# Altium footprint library PcbLib1.PcbLib: 49 footprints (part 3 of 4)
Each footprint in its own frame and in the unit in brackets; x right, y up, seen from the top. Pads: shape width x height; smd on the part's side, far side on the other; paste and mask are expansions set on the pad; w line width, h text height; cw(c..) or ccw(c..) is an arc to the next point about the centre after c.
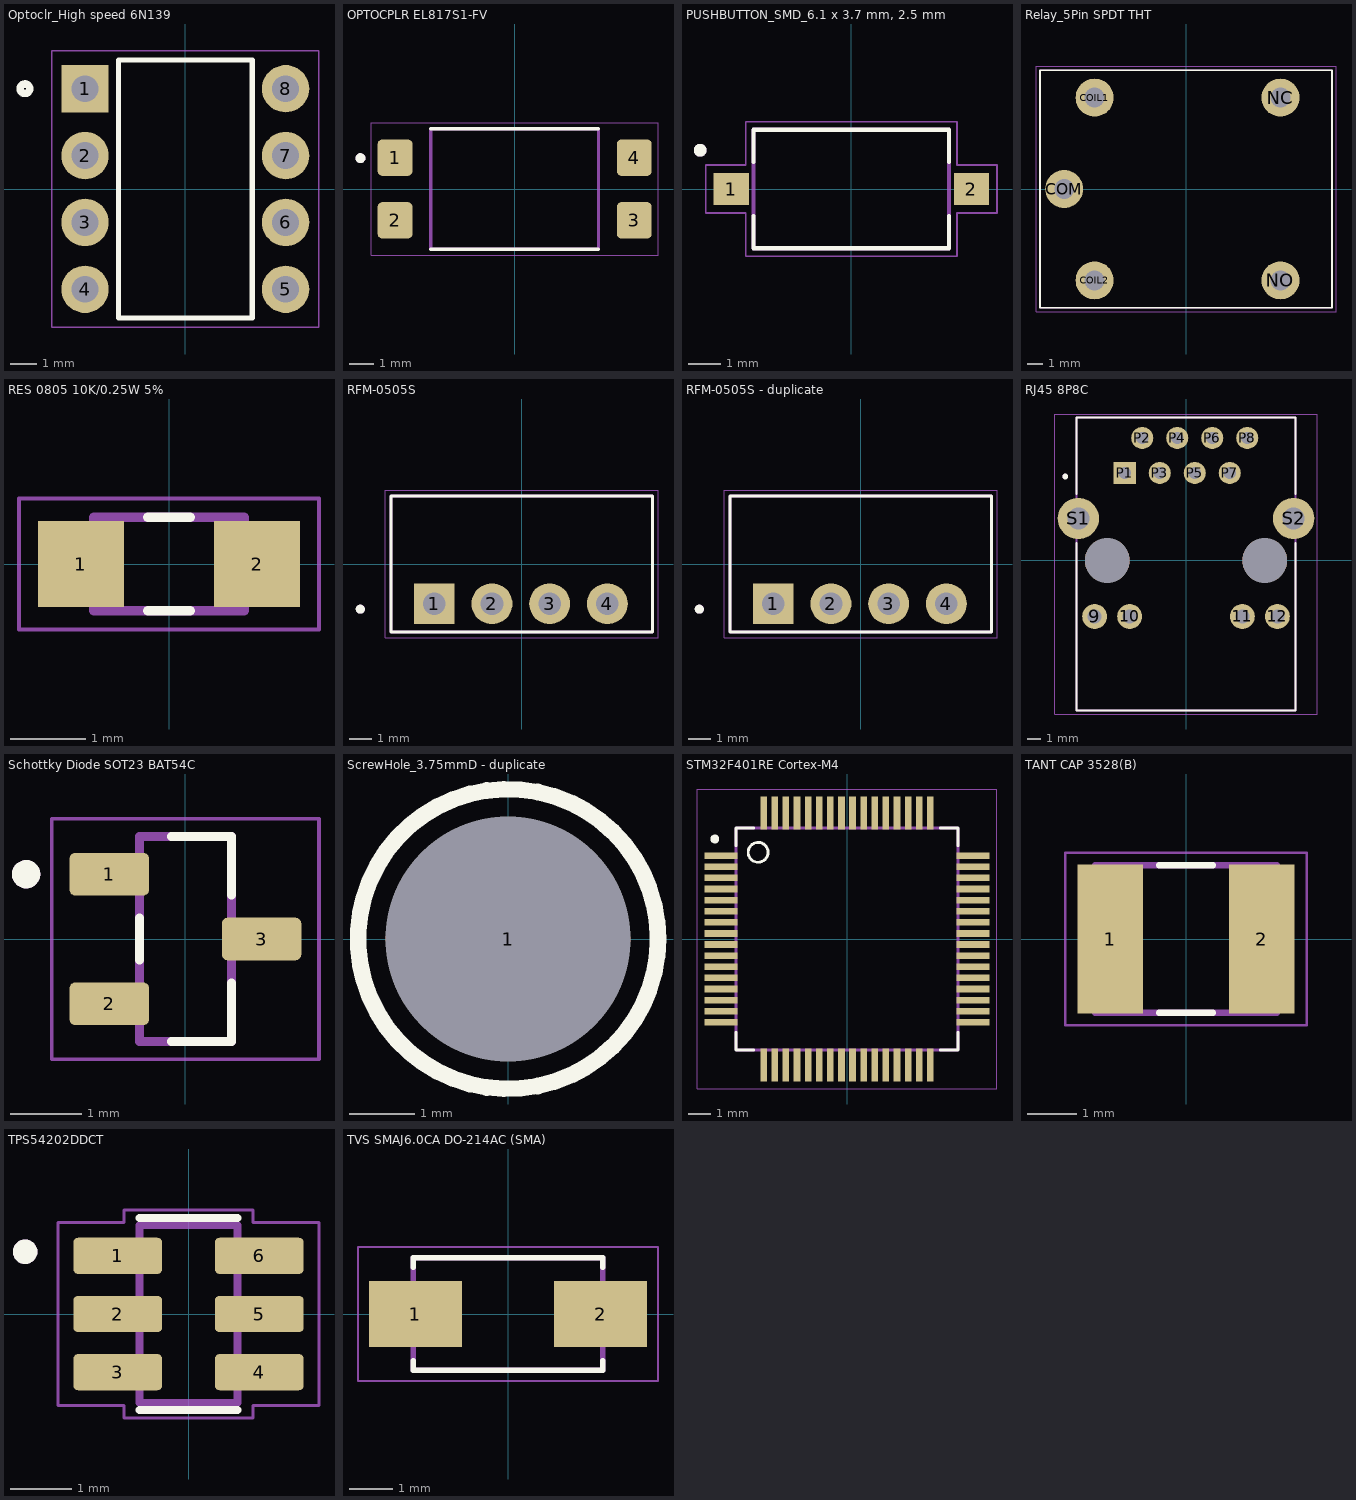
[diagram p2: the footprints below, top view; thin cyan lines are the x and y axes]

## Optoclr_High speed 6N139 [mm] "Optoclr_High speed 6N139 DIP-8"
pads (8):
  rect 1.8x1.8 hole 1.02: 1(-3.81,3.81)
  round 1.8 hole 1.02: 2(-3.81,1.27) 3(-3.81,-1.27) 4(-3.81,-3.81) 5(3.81,-3.81) 6(3.81,-1.27) 7(3.81,1.27) 8(3.81,3.81)
Top Overlay:
  circle w0.2: c-6.096,3.81 r0.141
  circle w0.2: c-6.096,3.81 r0.224
  lines w0.2: -2.54,-4.9 2.54,-4.9 2.54,4.9 -2.54,4.9 -2.54,-4.9
Mechanical 15:
  lines w0.05: -5.08,-5.25 5.08,-5.25 5.08,5.25 -5.08,5.25 -5.08,-5.25
3D body "step_temp.STEP": height 5.08, standoff -3.9, extent -3.96,-4.827 3.96,4.828

## OPTOCPLR EL817S1-FV [mm] "OPTOCPLR EL817S1 SOIC254P1030X390-4N_EL817S1-FV"
pads (4):
  rrect25% 1.41x1.47 smd: 1(-4.85,1.27) 2(-4.85,-1.27) 3(4.85,-1.27) 4(4.85,1.27)
Top Overlay:
  circle w0.2: c-6.25,1.25 r0.1
  lines w0.127: -3.4,-2.44 3.4,-2.44 ; -3.4,2.44 3.4,2.44
Mechanical 13:
  circle w0.2: c-6.25,1.25 r0.1
  lines w0.127: -3.4,-2.44 3.4,-2.44 3.4,2.44 -3.4,2.44 -3.4,-2.44
Mechanical 15:
  lines w0.05: -5.81,-2.69 -5.81,2.69 5.81,2.69 5.81,-2.69 -5.81,-2.69
3D body "EL817S1(C)(TA)-V.STEP": height 3.9, standoff 0, extent -5.023,-2.29 5.277,2.29

## PCBComponent_1 [mm]

## PCBComponent_1 - duplicate [mm]

## PUSHBUTTON_SMD_6.1 x 3.7 mm, 2.5 mm [mm] "6.1 x 3.7 mm, 2.5 mm Actuator Height, 260 gf, Red, Surface Mount, SPST, Tactile Switch, TS09-63-25-R-260-SMT-TR"
height 2.5
pads (2):
  rect 1.1x1 smd: 1(-3.75,0) 2(3.75,0)
Top Overlay:
  circle w0.2: c-4.72,1.21 r0.1
  lines w0.127: -3.05,-0.85 -3.05,-1.85 3.05,-1.85 3.05,-0.85 ; -3.05,0.85 -3.05,1.85 3.05,1.85 3.05,0.85
Mechanical 13:
  circle w0.2: c-4.72,1.21 r0.1
  lines w0.127: -3.05,-1.85 -3.05,1.85 3.05,1.85 3.05,-1.85 -3.05,-1.85
Mechanical 15:
  lines w0.05: -4.55,-0.75 -3.3,-0.75 -3.3,-2.1 3.3,-2.1 3.3,-0.75 4.55,-0.75 4.55,0.75 3.3,0.75 3.3,2.1 -3.3,2.1 -3.3,0.75 -4.55,0.75 -4.55,-0.75
3D body "step_temp.STEP": height 2.5, standoff -0.05, extent -4.05,-1.85 4.05,1.85

## Relay_5Pin SPDT THT [mm] "Relay_5Pin SPDT THT RELAY_SRD-03VDC-SL-C"
height 15.8
pads (5):
  round 2.5 hole 1.3: COIL1(-6,6) COIL2(-6,-6) COM(-8,0) NC(6.2,6) NO(6.2,-6)
Top Overlay:
  lines w0.127: -9.6,-7.8 -9.6,7.8 9.6,7.8 9.6,-7.8 -9.6,-7.8
Mechanical 13:
  lines w0.127: -9.6,-7.8 -9.6,7.8 9.6,7.8 9.6,-7.8 -9.6,-7.8
Mechanical 15:
  lines w0.05: -9.85,-8.05 -9.85,8.05 9.85,8.05 9.85,-8.05 -9.85,-8.05
3D body "step_temp.STEP": height 15.8, standoff -3, extent -9.6,-7.8 9.6,7.8

## RES 0805 10K/0.25W 5% [mm] "RESISTOR, THICK FILM, 10K, 5%, 0805, SMT FULL REEL Product Range:PANASONIC - ERJ Series"
height 0.55
pads (2):
  rect 1.15x1.15 smd: 1(-1.175,0) 2(1.175,0)
Top Overlay:
  lines w0.127: -0.28,-0.625 0.28,-0.625 ; -0.28,0.625 0.28,0.625
Mechanical 13:
  lines w0.127: -1,-0.625 -1,0.625 1,0.625 1,-0.625 -1,-0.625
Mechanical 15:
  lines w0.05: -2,-0.875 -2,0.875 2,0.875 2,-0.875 -2,-0.875
3D body "step_temp.STEP": height 0.7, standoff 0, extent -1,-0.625 1,0.625

## RFM-0505S [mm] "DC-DC Converter/Isolator, SIP4, THT S/T 1kV unreg, Single Output, 1W, 5V Out, RFM Series RFM-0505S"
height 10
pads (4):
  rect 1.8x1.8 hole 1: 1(-3.85,-1.75)
  round 1.8 hole 1: 2(-1.31,-1.75) 3(1.23,-1.75) 4(3.77,-1.75)
Top Overlay:
  circle w0.2: c-7.11,-1.99 r0.1
  lines w0.127: -5.75,-3 -5.75,3 5.75,3 5.75,-3 -5.75,-3
Mechanical 13:
  circle w0.2: c-7.1,-1.99 r0.1
  lines w0.127: -5.75,-3 -5.75,3 5.75,3 5.75,-3 -5.75,-3
Mechanical 15:
  lines w0.05: -6,-3.25 -6,3.25 6,3.25 6,-3.25 -6,-3.25
3D body "step_temp.STEP": height 10, standoff -4.1, extent -5.75,-3 5.75,3

## RFM-0505S - duplicate [mm] "DC-DC Converter/Isolator, SIP4, THT S/T 1kV unreg, Single Output, 1W, 5V Out, RFM Series RFM-0505S"
height 10
pads (4):
  rect 1.8x1.8 hole 1: 1(-3.85,-1.75)
  round 1.8 hole 1: 2(-1.31,-1.75) 3(1.23,-1.75) 4(3.77,-1.75)
Top Overlay:
  circle w0.2: c-7.11,-1.99 r0.1
  lines w0.127: -5.75,-3 -5.75,3 5.75,3 5.75,-3 -5.75,-3
Mechanical 13:
  circle w0.2: c-7.1,-1.99 r0.1
  lines w0.127: -5.75,-3 -5.75,3 5.75,3 5.75,-3 -5.75,-3
Mechanical 15:
  lines w0.05: -6,-3.25 -6,3.25 6,3.25 6,-3.25 -6,-3.25
3D body "step_temp.STEP": height 10, standoff -4.1, extent -5.75,-3 5.75,3

## RJ45 8P8C [mm] "RJ45 8P8C CUI_CRJ011-ML1-TH"
height 13.6
pads (16):
  round 1.808 hole 1: 9(-6.63,-4.06) 10(-4.09,-4.06) 11(4.09,-4.06) 12(6.63,-4.06)
  rect 1.608x1.608 hole 0.9: P1(-4.445,6.35)
  round 1.608 hole 0.9: P2(-3.175,8.89) P3(-1.905,6.35) P4(-0.635,8.89) P5(0.635,6.35) P6(1.905,8.89) P7(3.175,6.35) P8(4.445,8.89)
  round 3 hole 1.6: S1(-7.815,3.05) S2(7.815,3.05)
  round 3.25 hole 3.25 unplated: ""(-5.715,0) ""(5.715,0)
Top Overlay:
  circle w0.2: c-8.763,6.096 r0.111
  lines w0.127: -7.94,1.27 -7.94,-10.89 7.94,-10.89 7.94,1.27 ; -7.94,4.826 -7.94,10.38 7.94,10.38 7.94,4.826
Mechanical 13:
  circle w0.2: c-8.763,6.096 r0.1
  lines w0.127: -7.94,-10.89 7.94,-10.89 7.94,10.38 -7.94,10.38 -7.94,-10.89
Mechanical 15:
  lines w0.05: -9.525,-11.14 -9.525,10.63 9.525,10.63 9.525,-11.14 -9.525,-11.14
3D body "step_temp.STEP": height 13.3, standoff -3.74, extent -8.34,-10.922 8.34,10.345

## Schottky Diode SOT23 BAT54C [mm] "Schottky Diode SOT23 BAT54C"
height 1.15
pads (3):
  rrect25% 1.12x0.6 smd: 1(-1.075,0.915) 2(-1.075,-0.915) 3(1.075,0)
Top Overlay:
  circle w0.2: c-2.25,0.915 r0.1
  lines w0.127: -0.65,-0.295 -0.65,0.295 ; -0.195,-1.45 0.65,-1.45 0.65,-0.62 ; -0.195,1.45 0.65,1.45 0.65,0.62
Mechanical 13:
  circle w0.2: c-2.25,0.915 r0.1
  lines w0.127: -0.65,-1.45 -0.65,1.45 0.65,1.45 0.65,-1.45 -0.65,-1.45
Mechanical 15:
  lines w0.05: -1.885,-1.7 -1.885,1.7 1.885,1.7 1.885,-1.7 -1.885,-1.7
3D body "step_temp.STEP": height 1.14, standoff 0, extent -1.2,-1.45 1.2,1.45

## ScrewHole_3.75mmD - duplicate [mm] "SCREW HEAD DIA 4.5MM, SREW LEG DIA 3 MM"
pads (1):
  round 3.75 hole 3.75 unplated: 1(0,0)
Top Overlay:
  circle w0.254: c0,0 r2.3

## STM32F401RE Cortex-M4 [mm] "ARMÂ® CortexÂ®-M4 STM32F4 Microcontroller IC 32-Bit Single-Core 84MHz 512KB (512K x 8) FLASH 64-LQFP (10x10)"
pads (64):
  rect 1.5x0.3 smd: 1(-5.67,3.75) 2(-5.67,3.25) 3(-5.67,2.75) 4(-5.67,2.25) 5(-5.67,1.75) 6(-5.67,1.25) 7(-5.67,0.75) 8(-5.67,0.25) 9(-5.67,-0.25) 10(-5.67,-0.75) 11(-5.67,-1.25) 12(-5.67,-1.75) 13(-5.67,-2.25) 14(-5.67,-2.75) 15(-5.67,-3.25) 16(-5.67,-3.75) 33(5.67,-3.75) 34(5.67,-3.25) 35(5.67,-2.75) 36(5.67,-2.25) 37(5.67,-1.75) 38(5.67,-1.25) 39(5.67,-0.75) 40(5.67,-0.25) 41(5.67,0.25) 42(5.67,0.75) 43(5.67,1.25) 44(5.67,1.75) 45(5.67,2.25) 46(5.67,2.75) 47(5.67,3.25) 48(5.67,3.75)
  rect 0.3x1.5 smd: 17(-3.75,-5.67) 18(-3.25,-5.67) 19(-2.75,-5.67) 20(-2.25,-5.67) 21(-1.75,-5.67) 22(-1.25,-5.67) 23(-0.75,-5.67) 24(-0.25,-5.67) 25(0.25,-5.67) 26(0.75,-5.67) 27(1.25,-5.67) 28(1.75,-5.67) 29(2.25,-5.67) 30(2.75,-5.67) 31(3.25,-5.67) 32(3.75,-5.67) 49(3.75,5.67) 50(3.25,5.67) 51(2.75,5.67) 52(2.25,5.67) 53(1.75,5.67) 54(1.25,5.67) 55(0.75,5.67) 56(0.25,5.67) 57(-0.25,5.67) 58(-0.75,5.67) 59(-1.25,5.67) 60(-1.75,5.67) 61(-2.25,5.67) 62(-2.75,5.67) 63(-3.25,5.67) 64(-3.75,5.67)
Top Overlay:
  circle w0.2: c-5.95,4.5 r0.1
  circle w0.127: c-4,3.9 r0.447
  lines w0.127: -5,-4.2 -5,-5 -4.2,-5 ; -5,4.2 -5,5 -4.2,5 ; 4.2,-5 5,-5 5,-4.2 ; 4.2,5 5,5 5,4.2
Mechanical 13:
  lines w0.127: -5,-5 -5,5 5,5 5,-5 -5,-5
Mechanical 15:
  lines w0.05: -6.75,-6.75 -6.75,6.75 6.75,6.75 6.75,-6.75 -6.75,-6.75
3D body "step_temp.STEP": height 1.6, standoff 0, extent -6,-6 6,6

## TANT CAP 3528(B) [mm] "10 ÂµF Molded Tantalum Polymer Capacitor 25 V 1411 (3528 Metric), 1210 150mOhm TCJB106M025R0150"
pads (2):
  rect 1.34x3.02 smd: 1(-1.54,0) 2(1.54,0)
Top Overlay:
  lines w0.127: -0.55,-1.5 0.55,-1.5 ; -0.55,1.5 0.55,1.5
Mechanical 13:
  lines w0.127: -1.85,-1.5 -1.85,1.5 1.85,1.5 1.85,-1.5 -1.85,-1.5
Mechanical 15:
  lines w0.05: -2.458,-1.75 -2.458,1.75 2.458,1.75 2.458,-1.75 -2.458,-1.75
3D body "step_temp.STEP": height 2.1, standoff 0, extent -1.75,-1.4 1.75,1.4

## TPS54202DDCT [mm] "4.5V to 28V Input, 2A Output, EMI Friendly Synchronous Step-Down Converter SOT23-6"
pads (6):
  rrect25% 1.45x0.59 smd: 1(-1.155,0.95) 2(-1.155,0) 3(-1.155,-0.95) 4(1.155,-0.95) 5(1.155,0) 6(1.155,0.95)
Top Overlay:
  circle w0.2: c-2.667,1.016 r0.1
  lines w0.127: -0.8,-1.565 0.8,-1.565 ; -0.8,1.565 0.8,1.565
Mechanical 13:
  circle w0.2: c-2.667,1.016 r0.1
  lines w0.127: -0.8,-1.45 -0.8,1.45 0.8,1.45 0.8,-1.45 -0.8,-1.45
Mechanical 15:
  lines w0.05: -2.13,-1.495 -2.13,1.495 -1.05,1.495 -1.05,1.7 1.05,1.7 1.05,1.495 2.13,1.495 2.13,-1.495 1.05,-1.495 1.05,-1.7 -1.05,-1.7 -1.05,-1.495 -2.13,-1.495
3D body "step_temp.STEP": height 1.1, standoff 0, extent -1.4,-1.45 1.4,1.45

## TVS SMAJ6.0CA DO-214AC (SMA) [mm] "SMAJ6.0CA WG Bidirectional TVS diode littlefuse DO-214AC (SMA)"
pads (2):
  rect 2.12x1.5 smd: 1(-2.115,0) 2(2.115,0)
Top Overlay:
  lines w0.127: -2.165,-1.07 -2.165,-1.28 2.165,-1.28 2.165,-1.07 ; -2.165,1.07 -2.165,1.28 2.165,1.28 2.165,1.07
Mechanical 13:
  lines w0.127: -2.165,-1.28 2.165,-1.28 2.165,1.28 -2.165,1.28 -2.165,-1.28
Mechanical 15:
  lines w0.05: -3.425,-1.53 3.425,-1.53 3.425,1.53 -3.425,1.53 -3.425,-1.53
3D body "SMAJ5.0A.STEP": height 2.5, standoff 0, extent -2.57,-1.153 2.57,1.407